# EAGLE library part MT48LC4M16A2 (library Strutz Electronic Industries)
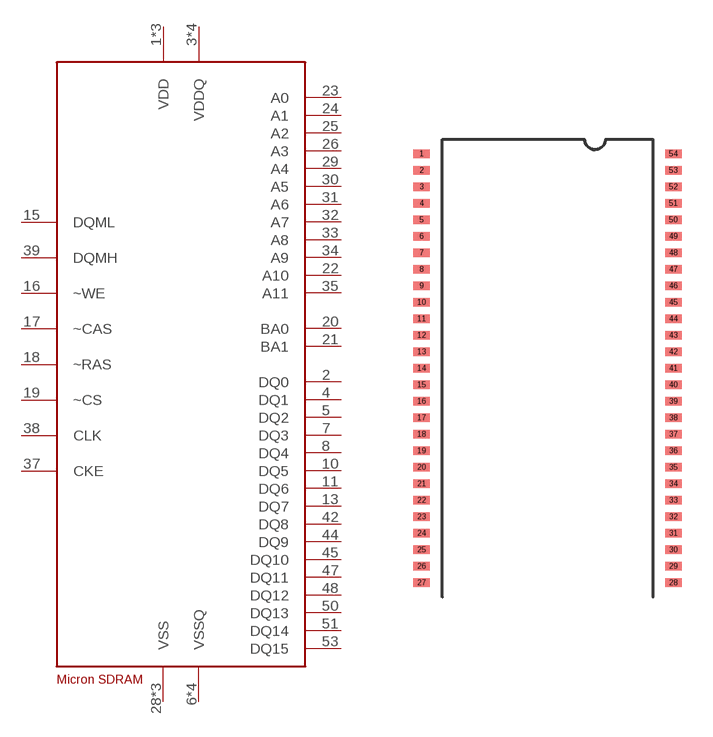
[diagram p19: symbol with the pads of TSOP-54; footprint TSOP-54]

Designator prefix -

## MT48LC4M16A2  [TSOP-54]
1  VDD
2  DQ0
3  VDDQ
4  DQ1
5  DQ2
6  VSSQ
7  DQ3
8  DQ4
9  VDDQ
10  DQ5
11  DQ6
12  VSSQ
13  DQ7
14  VDD
15  DQML
16  ~WE
17  ~CAS
18  ~RAS
19  ~CS
20  BA0
21  BA1
22  A10
23  A0
24  A1
25  A2
26  A3
27  VDD
28  VSS
29  A4
30  A5
31  A6
32  A7
33  A8
34  A9
35  A11
37  CKE
38  CLK
39  DQMH
41  VSS
42  DQ8
43  VDDQ
44  DQ9
45  DQ10
46  VSSQ
47  DQ11
48  DQ12
49  VDDQ
50  DQ13
51  DQ14
52  VSSQ
53  DQ15
54  VSS

## Footprint TSOP-54 (pad centres in mm)
smd 0.8 x 0.4: 1 -6.1,10.4; 2 -6.1,9.6; 3 -6.1,8.8; 4 -6.1,8; 5 -6.1,7.2; 6 -6.1,6.4; 7 -6.1,5.6; 8 -6.1,4.8; 9 -6.1,4; 10 -6.1,3.2; 11 -6.1,2.4; 12 -6.1,1.6; 13 -6.1,0.8; 14 -6.1,0; 15 -6.1,-0.8; 16 -6.1,-1.6; 17 -6.1,-2.4; 18 -6.1,-3.2; 19 -6.1,-4; 20 -6.1,-4.8; 21 -6.1,-5.6; 22 -6.1,-6.4; 23 -6.1,-7.2; 24 -6.1,-8; 25 -6.1,-8.8; 26 -6.1,-9.6; 27 -6.1,-10.4; 28 6.1,-10.4; 29 6.1,-9.6; 30 6.1,-8.8; 31 6.1,-8; 32 6.1,-7.2; 33 6.1,-6.4; 34 6.1,-5.6; 35 6.1,-4.8; 36 6.1,-4; 37 6.1,-3.2; 38 6.1,-2.4; 39 6.1,-1.6; 40 6.1,-0.8; 41 6.1,0; 42 6.1,0.8; 43 6.1,1.6; 44 6.1,2.4; 45 6.1,3.2; 46 6.1,4; 47 6.1,4.8; 48 6.1,5.6; 49 6.1,6.4; 50 6.1,7.2; 51 6.1,8; 52 6.1,8.8; 53 6.1,9.6; 54 6.1,10.4